# Altium footprint library 0781271220.PcbLib: 1 footprints
Each footprint in its own frame and in the unit in brackets; x right, y up, seen from the top. Pads: shape width x height; smd on the part's side, far side on the other; paste and mask are expansions set on the pad; w line width, h text height; cw(c..) or ccw(c..) is an arc to the next point about the centre after c.
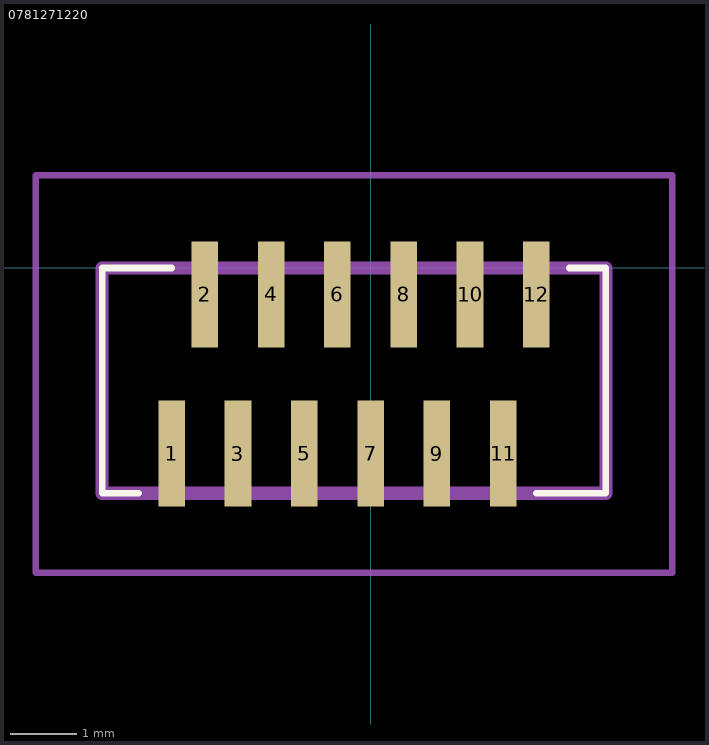
[diagram p0: the footprint, top view; thin cyan lines are the x and y axes]

## 0781271220 [mm]
pads (12):
  rect 0.4x1.6 smd: 1(-3,-2.8) 2(-2.5,-0.4) 3(-2,-2.8) 4(-1.5,-0.4) 5(-1,-2.8) 6(-0.5,-0.4) 7(0,-2.8) 8(0.5,-0.4) 9(1,-2.8) 10(1.5,-0.4) 11(2,-2.8) 12(2.5,-0.4)
Top Overlay:
  lines w0.1: -3.5,-3.4 -4.05,-3.4 -4.05,0 -3,0 ; 2.5,-3.4 3.55,-3.4 3.55,0 3,0
Mechanical 15:
  lines w0.2: -4.05,-3.4 3.55,-3.4 3.55,0 -4.05,0 -4.05,-3.4
Mechanical 20:
  lines w0.1: -5.05,-4.6 4.55,-4.6 4.55,1.4 -5.05,1.4 -5.05,-4.6